# Altium schematic symbol library SCH - MCU - STM32 - ST MICROELECTRONICS STM32G0B0CETX LQFP48.SchLib: 1 symbol
Pins are listed as number, name and electrical type; pins without a type are passive.

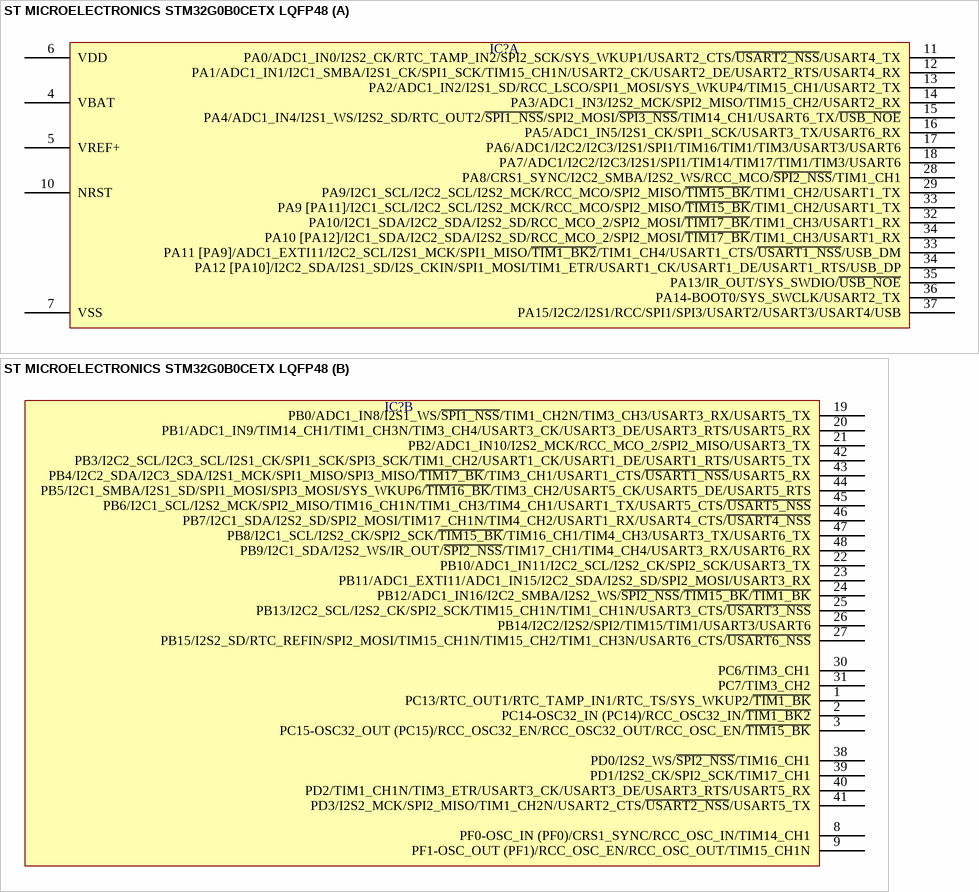
[diagram p0: symbol ST MICROELECTRONICS STM32G0B0CETX LQFP48]

## ST MICROELECTRONICS STM32G0B0CETX LQFP48
designator IC?  (value not drawn)
part A pins: 4 VBAT, 5 VREF+, 6 VDD, 7 VSS, 10 NRST, 11 PA0/ADC1_IN0/I2S2_CK/RTC_TAMP_IN2/SPI2_SCK/SYS_WKUP1/USART2_CTS/~{USART2_NSS}/USART4_TX, 12 PA1/ADC1_IN1/I2C1_SMBA/I2S1_CK/SPI1_SCK/TIM15_CH1N/USART2_CK/USART2_DE/USART2_RTS/USART4_RX, 13 PA2/ADC1_IN2/I2S1_SD/RCC_LSCO/SPI1_MOSI/SYS_WKUP4/TIM15_CH1/USART2_TX, 14 PA3/ADC1_IN3/I2S2_MCK/SPI2_MISO/TIM15_CH2/USART2_RX, 15 PA4/ADC1_IN4/I2S1_WS/I2S2_SD/RTC_OUT2/~{SPI1_NSS}/SPI2_MOSI/~{SPI3_NSS}/TIM14_CH1/USART6_TX/~{USB_NOE}, 16 PA5/ADC1_IN5/I2S1_CK/SPI1_SCK/USART3_TX/USART6_RX, 17 PA6/ADC1/I2C2/I2C3/I2S1/SPI1/TIM16/TIM1/TIM3/USART3/USART6, 18 PA7/ADC1/I2C2/I2C3/I2S1/SPI1/TIM14/TIM17/TIM1/TIM3/USART6, 28 PA8/CRS1_SYNC/I2C2_SMBA/I2S2_WS/RCC_MCO/~{SPI2_NSS}/TIM1_CH1, 29 PA9/I2C1_SCL/I2C2_SCL/I2S2_MCK/RCC_MCO/SPI2_MISO/~{TIM15_BK}/TIM1_CH2/USART1_TX, 32 PA10/I2C1_SDA/I2C2_SDA/I2S2_SD/RCC_MCO_2/SPI2_MOSI/~{TIM17_BK}/TIM1_CH3/USART1_RX, 33 PA9 [PA11]/I2C1_SCL/I2C2_SCL/I2S2_MCK/RCC_MCO/SPI2_MISO/~{TIM15_BK}/TIM1_CH2/USART1_TX, 33 PA11 [PA9]/ADC1_EXTI11/I2C2_SCL/I2S1_MCK/SPI1_MISO/~{TIM1_BK2}/TIM1_CH4/USART1_CTS/~{USART1_NSS}/USB_DM, 34 PA10 [PA12]/I2C1_SDA/I2C2_SDA/I2S2_SD/RCC_MCO_2/SPI2_MOSI/~{TIM17_BK}/TIM1_CH3/USART1_RX, 34 PA12 [PA10]/I2C2_SDA/I2S1_SD/I2S_CKIN/SPI1_MOSI/TIM1_ETR/USART1_CK/USART1_DE/USART1_RTS/USB_DP, 35 PA13/IR_OUT/SYS_SWDIO/~{USB_NOE}, 36 PA14-BOOT0/SYS_SWCLK/USART2_TX, 37 PA15/I2C2/I2S1/RCC/SPI1/SPI3/USART2/USART3/USART4/USB
part B pins: 1 PC13/RTC_OUT1/RTC_TAMP_IN1/RTC_TS/SYS_WKUP2/~{TIM1_BK}, 2 PC14-OSC32_IN (PC14)/RCC_OSC32_IN/~{TIM1_BK2}, 3 PC15-OSC32_OUT (PC15)/RCC_OSC32_EN/RCC_OSC32_OUT/RCC_OSC_EN/~{TIM15_BK}, 8 PF0-OSC_IN (PF0)/CRS1_SYNC/RCC_OSC_IN/TIM14_CH1, 9 PF1-OSC_OUT (PF1)/RCC_OSC_EN/RCC_OSC_OUT/TIM15_CH1N, 19 PB0/ADC1_IN8/I2S1_WS/~{SPI1_NSS}/TIM1_CH2N/TIM3_CH3/USART3_RX/USART5_TX, 20 PB1/ADC1_IN9/TIM14_CH1/TIM1_CH3N/TIM3_CH4/USART3_CK/USART3_DE/USART3_RTS/USART5_RX, 21 PB2/ADC1_IN10/I2S2_MCK/RCC_MCO_2/SPI2_MISO/USART3_TX, 22 PB10/ADC1_IN11/I2C2_SCL/I2S2_CK/SPI2_SCK/USART3_TX, 23 PB11/ADC1_EXTI11/ADC1_IN15/I2C2_SDA/I2S2_SD/SPI2_MOSI/USART3_RX, 24 PB12/ADC1_IN16/I2C2_SMBA/I2S2_WS/~{SPI2_NSS}/~{TIM15_BK}/~{TIM1_BK}, 25 PB13/I2C2_SCL/I2S2_CK/SPI2_SCK/TIM15_CH1N/TIM1_CH1N/USART3_CTS/~{USART3_NSS}, 26 PB14/I2C2/I2S2/SPI2/TIM15/TIM1/USART3/USART6, 27 PB15/I2S2_SD/RTC_REFIN/SPI2_MOSI/TIM15_CH1N/TIM15_CH2/TIM1_CH3N/USART6_CTS/~{USART6_NSS}, 30 PC6/TIM3_CH1, 31 PC7/TIM3_CH2, 38 PD0/I2S2_WS/~{SPI2_NSS}/TIM16_CH1, 39 PD1/I2S2_CK/SPI2_SCK/TIM17_CH1, 40 PD2/TIM1_CH1N/TIM3_ETR/USART3_CK/USART3_DE/USART3_RTS/USART5_RX, 41 PD3/I2S2_MCK/SPI2_MISO/TIM1_CH2N/USART2_CTS/~{USART2_NSS}/USART5_TX, 42 PB3/I2C2_SCL/I2C3_SCL/I2S1_CK/SPI1_SCK/SPI3_SCK/TIM1_CH2/USART1_CK/USART1_DE/USART1_RTS/USART5_TX, 43 PB4/I2C2_SDA/I2C3_SDA/I2S1_MCK/SPI1_MISO/SPI3_MISO/~{TIM17_BK}/TIM3_CH1/USART1_CTS/~{USART1_NSS}/USART5_RX, 44 PB5/I2C1_SMBA/I2S1_SD/SPI1_MOSI/SPI3_MOSI/SYS_WKUP6/~{TIM16_BK}/TIM3_CH2/USART5_CK/USART5_DE/USART5_RTS, 45 PB6/I2C1_SCL/I2S2_MCK/SPI2_MISO/TIM16_CH1N/TIM1_CH3/TIM4_CH1/USART1_TX/USART5_CTS/~{USART5_NSS}, 46 PB7/I2C1_SDA/I2S2_SD/SPI2_MOSI/TIM17_CH1N/TIM4_CH2/USART1_RX/USART4_CTS/~{USART4_NSS}, 47 PB8/I2C1_SCL/I2S2_CK/SPI2_SCK/~{TIM15_BK}/TIM16_CH1/TIM4_CH3/USART3_TX/USART6_TX, 48 PB9/I2C1_SDA/I2S2_WS/IR_OUT/~{SPI2_NSS}/TIM17_CH1/TIM4_CH4/USART3_RX/USART6_RX